# Altium footprint library CAP_CAN_TH_12p5mmLS25mmD.PcbLib: 1 footprints
Each footprint in its own frame and in the unit in brackets; x right, y up, seen from the top. Pads: shape width x height; smd on the part's side, far side on the other; paste and mask are expansions set on the pad; w line width, h text height; cw(c..) or ccw(c..) is an arc to the next point about the centre after c.
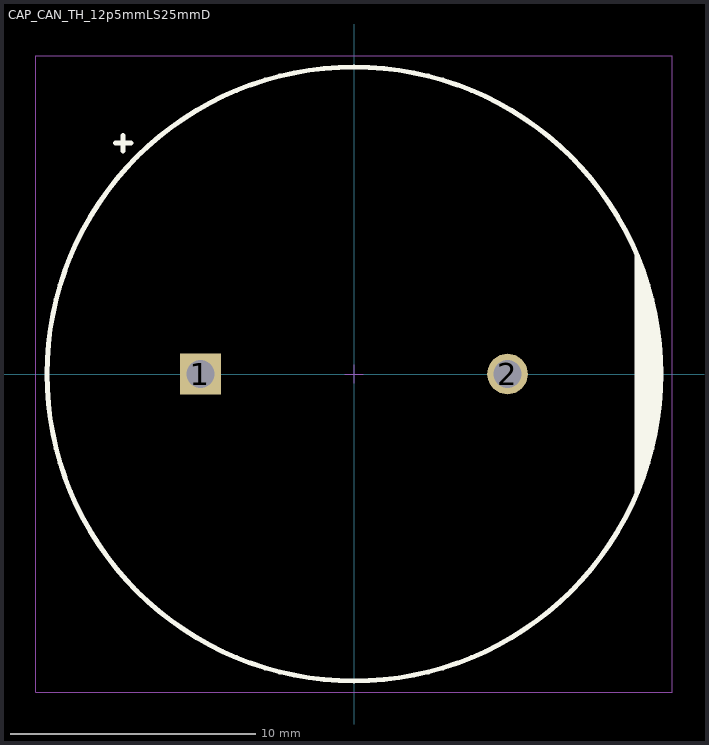
[diagram p0: the footprint, top view; thin cyan lines are the x and y axes]

## CAP_CAN_TH_12p5mmLS25mmD [mil]
pads (2):
  rect 65x65 hole 45: 1(-246.06,0)
  round 65 hole 45: 2(246.06,0)
Top Overlay:
  circle w7.87: c0,0 r492.13
  region: 450,190 450,-195 475,-130 485,-70 490,-10 490,40 480,100 465,160
  lines w7.87: -382.5,370 -357.5,370 ; -370,357.5 -370,382.5
Mechanical 15:
  lines w1.97: -15,0 15,0 ; 0,-15 0,15 ; -510,-510 -510,510 510,510 510,-510 -510,-510